# EAGLE library part RTD3* (library relay)
Power PCB Relay SCHRACK 1 pole 12 / 16 A, DC- or AC-coil Source: http://www.schrack.com/.. 5819.pdf
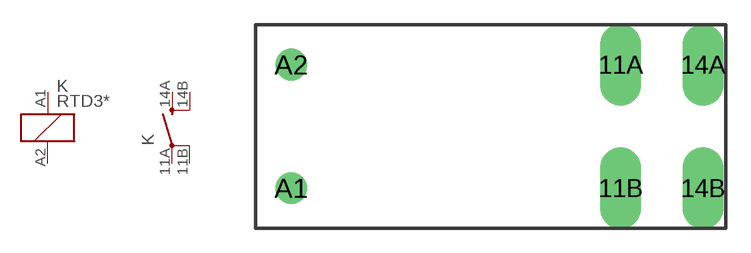
[diagram p114: symbol with the pads of RT-N/O16A5; footprint RT-N/O16A5]

Designator prefix K; gates 1=K 2=S-X2

## RTD34005 (MF: TYCO ELECTRONICS; MPN: RTD34005; OC_FARNELL: unknown; OC_NEWARK: 93B4654), RTD34006 (OC_FARNELL: unknown; OC_NEWARK: unknown), RTD34012 (MF: TYCO ELECTRONICS; MPN: RTD34012F; OC_FARNELL: unknown; OC_NEWARK: 36K3470), RTD34024 (MF: TYCO ELECTRONICS; MPN: RTD34024F; OC_FARNELL: 9850961; OC_NEWARK: 34K0187), RTD34048 (MF: TYCO ELECTRONICS; MPN: RTD34048; OC_FARNELL: unknown; OC_NEWARK: 08H3709), RTD34060 (OC_FARNELL: unknown; OC_NEWARK: unknown), RTD34110 (OC_FARNELL: unknown; OC_NEWARK: unknown), RTD34524 (OC_FARNELL: unknown; OC_NEWARK: unknown), RTD34615 (MF: TYCO ELECTRONICS; MPN: RTD34615; OC_FARNELL: unknown; OC_NEWARK: 48F1293), RTD34730 (MF: TYCO ELECTRONICS; MPN: RTD34730; OC_FARNELL: unknown; OC_NEWARK: 85C1167)  [RT-N/O16A5]
11A  2:PA  pas
11B  2:PB  pas
14A  2:SA  pas
14B  2:SB  pas
A1  1:1  pas
A2  1:2  pas

## Footprint RT-N/O16A5 (pad centres in mm)
Power PCB Relay 1 pole 12 / 16 A, DC- or AC-coil SCHRACK 16 A, pinning 5mm Source: http://www.schrack.com/.. 5819.pdf
drill 1.3 pad 2.5 long: 11A 7.56,3.78; 11B 7.56,-3.78; 14A 12.6,3.78; 14B 12.6,-3.78
drill 1.3: A1 -12.6,-3.78; A2 -12.6,3.78